# EAGLE library part WE-FB_EE20/10/6 (library Wurth_Power Magnetics_WE-FB)
WE-FB Flyback Transformer suitable for LT3573/ LT3574/ LT3575/ LT3748 Characteristics easy design in solution less external components needed small board space low cost no optocoupler needed! long term reliability voltage control no aging same external parts for different output voltages easy design of custom power supply due to standard circuit and change of transformers and two components for feedback loop Isolation voltage up to 2.5 kV Applications Isolated power design Sensor interfaces Isolated telecom converters Power over Ethernet The "VALUE"shown for symbol and packaging is Ooutput Voltage 1 Output Current 1 <https://katalog.we-online.com/media/images/v2/o35283v209%20Family_we-fb_LT%20Kits_gruppe.jpg> Details see: https://katalog.we-online.com/en/pbs/WE-FB Updated by Yingchun,Shan 2019-08-27 2019 Wurth Elektronik
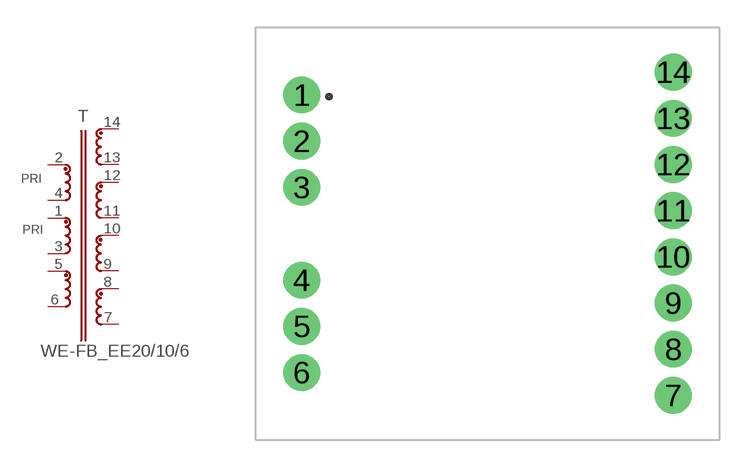
[diagram p3: symbol with the pads of WE-FB_EE20/10/6; footprint WE-FB_EE20/10/6]

Designator prefix T

## WE-FB_EE20/10/6_750311911 (DATASHEET-URL: https://katalog.we-online.com/pbs/datasheet/750311911.pdf; IO2: 0.2A; IO3: 0.2A; IO4: 0.2A; ISAT: 13A; L: 6.8uH; LSMIN: 0.1uH; N: 1:3:3:3:3; PART-NUMBER: 750311911; VALUE: 15V 0.2A; VI: 16-24V(DC); VO2: 15V; VO3: 15V; VO4: 15V; VT: 1500V(AC))  [WE-FB_EE20/10/6]
1  3  pas
2  1  pas
3  4  pas
4  2  pas
5  5  pas
6  6  pas
7  7  pas
8  8  pas
9  9  pas
10  10  pas
11  11  pas
12  12  pas
13  13  pas
14  14  pas

## Footprint WE-FB_EE20/10/6 (pad centres in mm)
WE-FB Flyback Transformer suitable for LT3573/ LT3574/ LT3575/ LT3748 Size: EE20/10/6 THT 14Pin
drill 1.32: 1 -10,7.48; 2 -10,4.99; 3 -10,2.5; 4 -10,-2.5; 5 -10,-4.99; 6 -10,-7.48; 7 10,-8.715; 8 10,-6.225; 9 10,-3.735; 10 10,-1.245; 11 10,1.245; 12 10,3.735; 13 10,6.225; 14 10,8.715